# Altium schematic symbol library B57621-C5103-J62.Schlib: 1 symbol
Pins are listed as number, name and electrical type; pins without a type are passive.

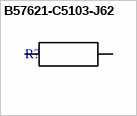
[diagram p0: symbol B57621-C5103-J62]

## B57621-C5103-J62
designator R?
Resistor NTC
pins: 1, 2